# Altium schematic symbol library SP485EN-L.SchLib: 1 symbol
Pins are listed as number, name and electrical type; pins without a type are passive.

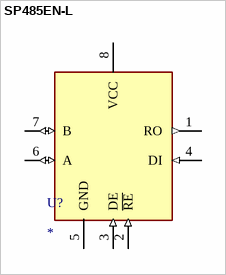
[diagram p0: symbol SP485EN-L]

## SP485EN-L
designator U?
Enhanced Low Power Half-Duplex RS-485 Transceivers; MF: {'manufacturer': u'MaxLinear, Inc.'}; MP: SP485EN-L; Availability: Unavailable; Price: None; Package: None; Value: *
footprint SOIC8 (SOIC, 8-Leads, Body 4.9x3.9mm, Pitch 1.27mm, IPC Low Density)
pins: 1 RO (out), 2 ~{RE} (in), 3 DE (in), 4 DI (in), 5 GND, 6 A (io), 7 B (io), 8 VCC (power)